# Altium footprint library Inproject.PcbLib: 3 footprints
Each footprint in its own frame and in the unit in brackets; x right, y up, seen from the top. Pads: shape width x height; smd on the part's side, far side on the other; paste and mask are expansions set on the pad; w line width, h text height; cw(c..) or ccw(c..) is an arc to the next point about the centre after c.
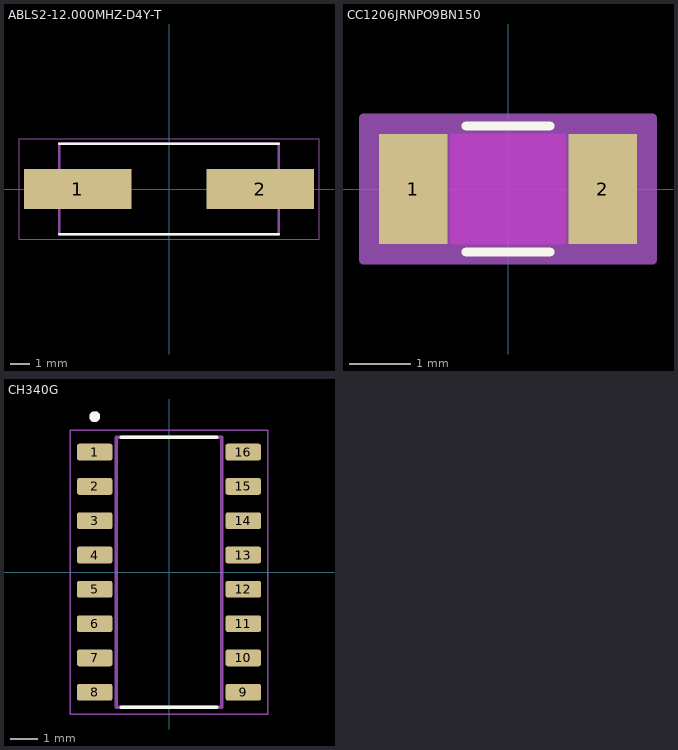
[diagram p0: the footprints below, top view; thin cyan lines are the x and y axes]

## ABLS2-12.000MHZ-D4Y-T [mm]
pads (2):
  rect 5.6x2.1 smd: 1(-4.75,0) 2(4.75,0)
Top Overlay:
  lines w0.127: -5.7,-2.35 5.7,-2.35 ; -5.7,2.35 5.7,2.35
Mechanical 13:
  lines w0.127: -5.7,-2.35 5.7,-2.35 5.7,2.35 -5.7,2.35 -5.7,-2.35
Mechanical 15:
  lines w0.05: -7.8,-2.6 7.8,-2.6 7.8,2.6 -7.8,2.6 -7.8,-2.6
3D body "step_temp.STEP": height 3.16, standoff -0.1, extent -6.35,-2.349 6.35,2.349

## CC1206JRNPO9BN150 [mil]
pads (2):
  rect 44x71 smd paste+0 mask+0: 1(-61,0) 2(61,0)
Top Layer keep-out:
  region: -37,-33.5 -37,33.5 37,33.5 37,-33.5
Top Overlay:
  lines w6: -26.89,-40.5 26.89,-40.5 ; -26.89,40.5 26.89,40.5
Keep-Out Layer:
  region: -37,-35.5 -37,35.5 37,35.5 37,-35.5
Mechanical 13:
  lines w1: -69,-35.5 -69,35.5 ; -69,-35.5 -39,-35.5 -39,35.5 -69,35.5 ; -69,-35.5 69,-35.5 ; -69,-35.5 -69,35.5 ; -69,35.5 69,35.5 ; 69,-35.5 39,-35.5 39,35.5 69,35.5 ; 69,-35.5 69,35.5 ; 69,-35.5 69,35.5
Mechanical 15:
  region: 93,-45.5 -93,-45.5 -93,45.5 93,45.5
  lines w6: -93,-45.5 -93,45.5 93,45.5 93,-45.5 -93,-45.5
3D body "CAP_CC1206_YAG.step": height 70.98, standoff 0, extent -69.02,-35.51 69.02,35.51

## CH340G [mm]
pads (16):
  rrect25% 1.31x0.62 smd: 1(-2.75,4.445) 2(-2.75,3.175) 3(-2.75,1.905) 4(-2.75,0.635) 5(-2.75,-0.635) 6(-2.75,-1.905) 7(-2.75,-3.175) 8(-2.75,-4.445) 9(2.75,-4.445) 10(2.75,-3.175) 11(2.75,-1.905) 12(2.75,-0.635) 13(2.75,0.635) 14(2.75,1.905) 15(2.75,3.175) 16(2.75,4.445)
Top Overlay:
  circle w0.2: c-2.75,5.755 r0.1
  lines w0.127: -1.775,-5 1.775,-5 ; -1.775,5 1.775,5
Mechanical 13:
  circle w0.2: c-2.75,5.755 r0.1
  lines w0.127: -1.95,-5 1.95,-5 1.95,5 -1.95,5 -1.95,-5
Mechanical 15:
  lines w0.05: -3.655,-5.25 3.655,-5.25 3.655,5.25 -3.655,5.25 -3.655,-5.25
3D body "step_temp.STEP": height 1.8, standoff 0, extent -3,-5 3,5